# Altium schematic symbol library Phil.SchLib: 14 symbols
Pins are listed as number, name and electrical type; pins without a type are passive.

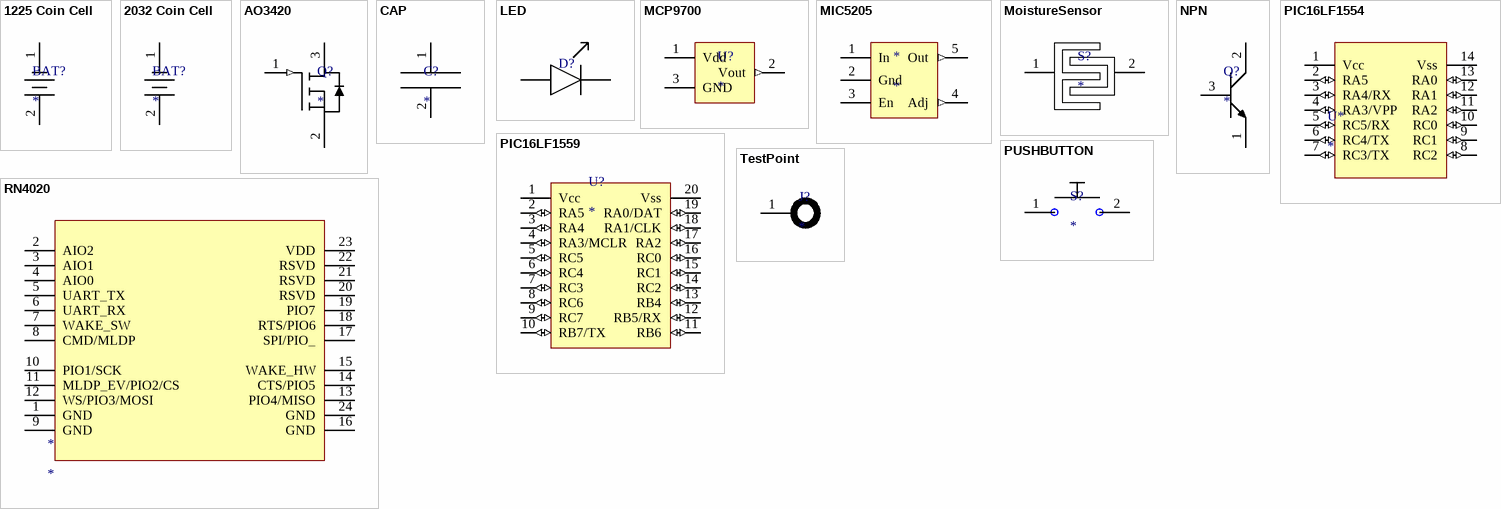
[diagram p0: symbols 1225 Coin Cell to TestPoint]

## 1225 Coin Cell
designator BAT?
footprint Keystone_3000_1225_CoinCell
pins: 1, 2

## 2032 Coin Cell
designator BAT?
footprint 1063TR-CoinCell
footprint Keystone_3002_2032_CoinCell
pins: 1, 2

## AO3420
designator Q?
footprint SOT23_N (SOT23, 3-Leads, Body 2.9x1.3mm, Pitch 0.95mm, Lead Span 2.3mm - Reverse Pinning, IPC Medium Density)
pins: 1 G (in), 2 S (power), 3 D (power)

## CAP
designator C?
footprint 603_
pins: 1, 2

## LED
designator D?  (value not drawn)
footprint 603_
pins: 1, 2

## MCP9700
designator U?
footprint SOT23_M (SOT23, 3-Leads, Body 2.9x1.3mm, Pitch 0.95mm, Lead Span 2.3mm - Reverse Pinning, IPC Low Density)
pins: 1 Vdd (power), 2 Vout (out), 3 GND (power)

## MIC5205
designator *
footprint SOT23-5_N (SOT23, 6-Leads, Body 2.9x1.6mm, Pitch 0.95mm, Lead Span 2.7mm, IPC Medium Density)
pins: 1 In (power), 2 Gnd (power), 3 En (power), 4 Adj (out), 5 Out (out)

## MoistureSensor
designator S?
footprint MoistureSensor; pin to pad 1>0 2>1
footprint MOISTURE_2; pin to pad 1>0 2>1
pins: 1, 2

## NPN
designator Q?
footprint TO-92 (TO, Flat Index; 3 In-Line, Axial Leads; Body Dia. 4.6mm; Leads 0.41 x 0.39 mm (max))
pins: 1, 2, 3

## PIC16LF1554
designator U*
footprint DIP-14 (DIP; 14 Leads; Row Spacing 7.62 mm; Pitch 2.54 mm)
footprint SOT402-1_N (TSOP, 14-Leads, Body 5x4.4mm, Pitch 0.65mm, IPC Medium Density)
pins: 1 Vcc (power), 2 RA5 (io), 3 RA4/RX (io), 4 RA3/VPP (io), 5 RC5/RX (io), 6 RC4/TX (io), 7 RC3/TX (io), 8 RC2 (io), 9 RC1 (io), 10 RC0 (io), 11 RA2 (io), 12 RA1 (io), 13 RA0 (io), 14 Vss (power)

## PIC16LF1559
designator U?
footprint SSOP-20
pins: 1 Vcc (power), 2 RA5 (io), 3 RA4 (io), 4 RA3/MCLR (io), 5 RC5 (io), 6 RC4 (io), 7 RC3 (io), 8 RC6 (io), 9 RC7 (io), 10 RB7/TX (io), 11 RB6 (io), 12 RB5/RX (io), 13 RB4 (io), 14 RC2 (io), 15 RC1 (io), 16 RC0 (io), 17 RA2 (io), 18 RA1/CLK (io), 19 RA0/DAT (io), 20 Vss (power)

## PUSHBUTTON
designator S?
TE 5-1437565-0
footprint PUSHBUTTON (TE 5-1437565-0)
pins: 1, 2

## RN4020
designator *
footprint RN4020
footprint RN4020 MODULE-24
pins: 1 GND (power), 2 AIO2, 3 AIO1, 4 AIO0, 5 UART_TX, 6 UART_RX, 7 WAKE_SW, 8 CMD/MLDP, 9 GND (power), 10 PIO1/SCK, 11 MLDP_EV/PIO2/CS, 12 WS/PIO3/MOSI, 13 PIO4/MISO, 14 CTS/PIO5, 15 WAKE_HW, 16 GND (power), 17 SPI/PIO_, 18 RTS/PIO6, 19 PIO7, 20 RSVD, 21 RSVD, 22 RSVD, 23 VDD (power), 24 GND

## TestPoint
designator J?
footprint TestPoint
pins: 1